# EAGLE library part SLIDER_5SEG_LED (library PatternAgents-SunLED)
Slider, Passive Type, Five (5) Segments, With LEDS and SHIELD Status : Untested in Production Prototypes due 12/2017 Varients : _LED : Just the Segments, Shield Electrodes and LEDs, no xRestrict layers _SHIELD : Includes Shield/Proximity Ring and Restrict layers Source : http://www.PatternAgents.com Github : https://github.com/PatternAgents License : http://creativecommons.org/licenses/by-sa/3.1/ (Creative Commons 3.1) THIS SOFTWARE IS PROVIDED BY THE CONTRIBUTORS "AS IS" AND WITHOUT ANY EXPRESS OR IMPLIED WARRANTIES, INCLUDING, BUT NOT LIMITED TO, THE IMPLIED WARRANTIES OF MERCHANTABILITY AND FITNESS FOR A PARTICULAR PURPOSE ARE DISCLAIMED. IN NO EVENT SHALL THE COPYRIGHT OWNER OR CONTRIBUTORS BE LIABLE FOR ANY DIRECT, INDIRECT, INCIDENTAL, SPECIAL, EXEMPLARY, OR CONSEQUENTIAL DAMAGES (INCLUDING, BUT NOT LIMITED TO, PROCUREMENT OF SUBSTITUTE GOODS OR SERVICES; LOSS OF USE, DATA, OR PROFITS; OR BUSINESS INTERRUPTION) HOWEVER CAUSED AND ON ANY THEORY OF LIABILITY, WHETHER IN CONTRACT, STRICT LIABILITY, OR TORT (INCLUDING NEGLIGENCE OR OTHERWISE) ARISING IN ANY WAY OUT OF THE USE OF THIS SOFTWARE, EVEN IF ADVISED OF THE POSSIBILITY OF SUCH DAMAGE.
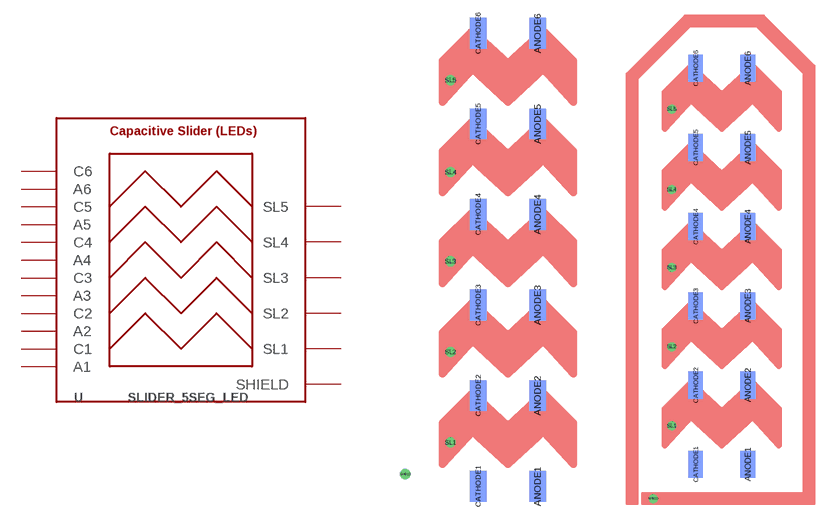
[diagram p2: symbol with the pads of SLIDER_5SEG_LED; footprints SLIDER_5SEG_LED, SLIDER_5SEG_LED_SHIELD]

Designator prefix -

## SLIDER_5SEG_LED  [SLIDER_5SEG_LED]
ANODE1  C1  pas
ANODE2  C2  pas
ANODE3  C3  pas
ANODE4  C4  pas
ANODE5  C5  pas
ANODE6  C6  pas
CATHODE1  A1  pas
CATHODE2  A2  pas
CATHODE3  A3  pas
CATHODE4  A4  pas
CATHODE5  A5  pas
CATHODE6  A6  pas
SHIELD  SHIELD  pas
SL1  SL1  pas
SL2  SL2  pas
SL3  SL3  pas
SL4  SL4  pas
SL5  SL5  pas

## SLIDER_5SEG_LED_SHIELD  [SLIDER_5SEG_LED_SHIELD]
Pads as for SLIDER_5SEG_LED

## Footprint SLIDER_5SEG_LED (pad centres in mm)
smd 1.4 x 2.6 bottom: ANODE1 2.5,-18.796; ANODE2 2.5,-11.176; ANODE3 2.5,-3.556; ANODE4 2.5,4.064; ANODE5 2.5,11.684; ANODE6 2.5,19.304; CATHODE1 -2.5,-18.796; CATHODE2 -2.5,-11.176; CATHODE3 -2.5,-3.556; CATHODE4 -2.5,4.064; CATHODE5 -2.5,11.684; CATHODE6 -2.5,19.304
drill 0.356: SHIELD -8.636,-17.78; SL1 -4.826,-15.113; SL2 -4.826,-7.493; SL3 -4.826,0.127; SL4 -4.826,7.62; SL5 -4.826,15.367

## Footprint SLIDER_5SEG_LED_SHIELD (pad centres in mm)
smd 1.4 x 2.6 bottom: ANODE1 2.5,-18.796; ANODE2 2.5,-11.176; ANODE3 2.5,-3.556; ANODE4 2.5,4.064; ANODE5 2.5,11.684; ANODE6 2.5,19.304; CATHODE1 -2.5,-18.796; CATHODE2 -2.5,-11.176; CATHODE3 -2.5,-3.556; CATHODE4 -2.5,4.064; CATHODE5 -2.5,11.684; CATHODE6 -2.5,19.304
drill 0.356: SHIELD -6.604,-22.098; SL1 -4.826,-15.113; SL2 -4.826,-7.493; SL3 -4.826,0.127; SL4 -4.826,7.62; SL5 -4.826,15.367